# Altium footprint library PE42420D-Z.PcbLib: 3 footprints
Each footprint in its own frame and in the unit in brackets; x right, y up, seen from the top. Pads: shape width x height; smd on the part's side, far side on the other; paste and mask are expansions set on the pad; w line width, h text height; cw(c..) or ccw(c..) is an arc to the next point about the centre after c.
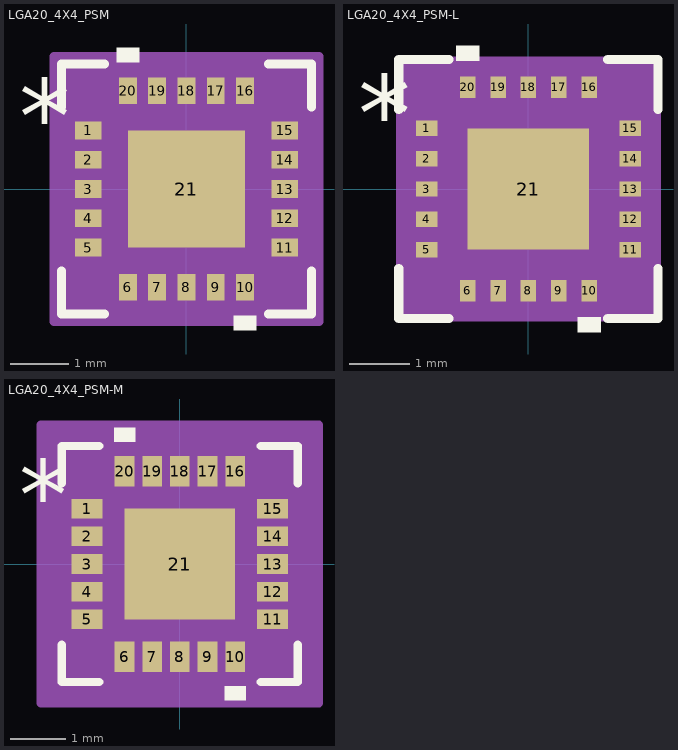
[diagram p0: the footprints below, top view; thin cyan lines are the x and y axes]

## LGA20_4X4_PSM [mil]
pads (21):
  rect 18x12 smd paste+0 mask+0: 1(-66,39.38) 2(-66,19.69) 3(-66,0) 4(-66,-19.69) 5(-66,-39.38) 11(66,-39.38) 12(66,-19.69) 13(66,0) 14(66,19.69) 15(66,39.38)
  rect 12x18 smd paste+0 mask+0: 6(-39.38,-66) 7(-19.69,-66) 8(0,-66) 9(19.69,-66) 10(39.38,-66) 16(39.38,66) 17(19.69,66) 18(0,66) 19(-19.69,66) 20(-39.38,66)
  rect 78.74x78.74 smd paste+0 mask+0: 21(0,0)
Top Overlay:
  region: 46.88,-85 31.88,-85 31.88,-95 46.88,-95
  region: -31.88,85 -46.88,85 -46.88,95 -31.88,95
  lines w6: -84,-54.9 -84,-84 -54.9,-84 ; -84,54.9 -84,84 -54.9,84 ; 54.9,-84 84,-84 84,-54.9 ; 54.9,84 84,84 84,54.9
  text "*" at -112.5,24.23 h50
Mechanical 13:
  lines w1: -79,29 -29,79 ; -79,-79 79,-79 ; -79,-79 -79,79 ; -79,-79 -79,-79 ; -79,79 79,79 ; -79,79 -79,79 ; 79,-79 79,-79 ; 79,-79 79,79 ; 79,79 79,79 ; -79,-45.38 -79,-33.38 -75,-33.38 -75,-45.38 -79,-45.38 ; -79,-25.69 -79,-13.69 -75,-13.69 -75,-25.69 -79,-25.69 ; -79,-6 -79,6 -75,6 -75,-6 -79,-6 ; -79,13.69 -79,25.69 -75,25.69 -75,13.69 -79,13.69 ; -79,33.38 -79,45.38 -75,45.38 -75,33.38 -79,33.38 ; -45.38,-79 -33.38,-79 -33.38,-75 -45.38,-75 -45.38,-79 ; -45.38,75 -33.38,75 -33.38,79 -45.38,79 -45.38,75 ; -25.69,-79 -13.69,-79 -13.69,-75 -25.69,-75 -25.69,-79 ; -25.69,75 -13.69,75 -13.69,79 -25.69,79 -25.69,75 ; -6,-79 6,-79 6,-75 -6,-75 -6,-79 ; -6,75 6,75 6,79 -6,79 -6,75 ; 13.69,-79 25.69,-79 25.69,-75 13.69,-75 13.69,-79 ; 13.69,75 25.69,75 25.69,79 13.69,79 13.69,75 ; 33.38,-79 45.38,-79 45.38,-75 33.38,-75 33.38,-79 ; 33.38,75 45.38,75 45.38,79 33.38,79 33.38,75 ; 75,-45.38 79,-45.38 79,-33.38 75,-33.38 75,-45.38 ; 75,-25.69 79,-25.69 79,-13.69 75,-13.69 75,-25.69 ; 75,-6 79,-6 79,6 75,6 75,-6 ; 75,13.69 79,13.69 79,25.69 75,25.69 75,13.69 ; 75,33.38 79,33.38 79,45.38 75,45.38 75,33.38
  text "*" at -69.5,24.23 h50
Mechanical 15:
  region: -55.38,-89 -89,-89 -89,-55.38 -89,55.38 -89,89 -55.38,89 55.38,89 89,89 89,55.38 89,-55.38 89,-89 55.38,-89
  lines w6: -89,-55.38 -89,-89 -55.38,-89 ; -89,-55.38 -89,-55.38 ; -89,-55.38 -89,55.38 ; -89,55.38 -89,55.38 ; -89,55.38 -89,89 -55.38,89 ; -55.38,-89 55.38,-89 ; -55.38,-89 -55.38,-89 ; -55.38,89 -55.38,89 ; -55.38,89 55.38,89 ; 55.38,-89 89,-89 89,-55.38 ; 55.38,-89 55.38,-89 ; 55.38,89 55.38,89 ; 55.38,89 89,89 89,55.38 ; 89,-55.38 89,55.38 ; 89,-55.38 89,-55.38 ; 89,55.38 89,55.38
3D body "LGA20_4X4_PSM.step": height 39.09, standoff 0, extent -79.02,-79.02 79.02,79.02

## LGA20_4X4_PSM-L [mil]
pads (21):
  rect 14x10 smd paste+0 mask+0: 1(-66,39.38) 2(-66,19.69) 3(-66,0) 4(-66,-19.69) 5(-66,-39.38) 11(66,-39.38) 12(66,-19.69) 13(66,0) 14(66,19.69) 15(66,39.38)
  rect 10x14 smd paste+0 mask+0: 6(-39.38,-66) 7(-19.69,-66) 8(0,-66) 9(19.69,-66) 10(39.38,-66) 16(39.38,66) 17(19.69,66) 18(0,66) 19(-19.69,66) 20(-39.38,66)
  rect 78.74x78.74 smd paste+0 mask+0: 21(0,0)
Top Overlay:
  region: 46.88,-83 31.88,-83 31.88,-93 46.88,-93
  region: -31.88,83 -46.88,83 -46.88,93 -31.88,93
  lines w6: -84,-51.49 -84,-84 -51.49,-84 ; -84,51.49 -84,84 -51.49,84 ; 51.49,-84 84,-84 84,-51.49 ; 51.49,84 84,84 84,51.49
  text "*" at -110.5,24.23 h50
Mechanical 13:
  lines w1: -79,29 -29,79 ; -79,-79 79,-79 ; -79,-79 -79,79 ; -79,-79 -79,-79 ; -79,79 79,79 ; -79,79 -79,79 ; 79,-79 79,-79 ; 79,-79 79,79 ; 79,79 79,79 ; -79,-45.38 -79,-33.38 -75,-33.38 -75,-45.38 -79,-45.38 ; -79,-25.69 -79,-13.69 -75,-13.69 -75,-25.69 -79,-25.69 ; -79,-6 -79,6 -75,6 -75,-6 -79,-6 ; -79,13.69 -79,25.69 -75,25.69 -75,13.69 -79,13.69 ; -79,33.38 -79,45.38 -75,45.38 -75,33.38 -79,33.38 ; -45.38,-79 -33.38,-79 -33.38,-75 -45.38,-75 -45.38,-79 ; -45.38,75 -33.38,75 -33.38,79 -45.38,79 -45.38,75 ; -25.69,-79 -13.69,-79 -13.69,-75 -25.69,-75 -25.69,-79 ; -25.69,75 -13.69,75 -13.69,79 -25.69,79 -25.69,75 ; -6,-79 6,-79 6,-75 -6,-75 -6,-79 ; -6,75 6,75 6,79 -6,79 -6,75 ; 13.69,-79 25.69,-79 25.69,-75 13.69,-75 13.69,-79 ; 13.69,75 25.69,75 25.69,79 13.69,79 13.69,75 ; 33.38,-79 45.38,-79 45.38,-75 33.38,-75 33.38,-79 ; 33.38,75 45.38,75 45.38,79 33.38,79 33.38,75 ; 75,-45.38 79,-45.38 79,-33.38 75,-33.38 75,-45.38 ; 75,-25.69 79,-25.69 79,-13.69 75,-13.69 75,-25.69 ; 75,-6 79,-6 79,6 75,6 75,-6 ; 75,13.69 79,13.69 79,25.69 75,25.69 75,13.69 ; 75,33.38 79,33.38 79,45.38 75,45.38 75,33.38
  text "*" at -71.5,24.23 h50
Mechanical 15:
  region: -48.38,-83 -83,-83 -83,-48.38 -83,48.38 -83,83 -48.38,83 48.38,83 83,83 83,48.38 83,-48.38 83,-83 48.38,-83
  lines w6: -83,-48.38 -83,-83 -48.38,-83 ; -83,-48.38 -83,-48.38 ; -83,-48.38 -83,48.38 ; -83,48.38 -83,48.38 ; -83,48.38 -83,83 -48.38,83 ; -48.38,-83 48.38,-83 ; -48.38,-83 -48.38,-83 ; -48.38,83 -48.38,83 ; -48.38,83 48.38,83 ; 48.38,-83 83,-83 83,-48.38 ; 48.38,-83 48.38,-83 ; 48.38,83 48.38,83 ; 48.38,83 83,83 83,48.38 ; 83,-48.38 83,48.38 ; 83,-48.38 83,-48.38 ; 83,48.38 83,48.38
3D body "LGA20_4X4_PSM.step": height 39.09, standoff 0, extent -79.02,-79.02 79.02,79.02

## LGA20_4X4_PSM-M [mil]
pads (21):
  rect 22x14 smd paste+0 mask+0: 1(-66,39.38) 2(-66,19.69) 3(-66,0) 4(-66,-19.69) 5(-66,-39.38) 11(66,-39.38) 12(66,-19.69) 13(66,0) 14(66,19.69) 15(66,39.38)
  rect 14x22 smd paste+0 mask+0: 6(-39.38,-66) 7(-19.69,-66) 8(0,-66) 9(19.69,-66) 10(39.38,-66) 16(39.38,66) 17(19.69,66) 18(0,66) 19(-19.69,66) 20(-39.38,66)
  rect 78.74x78.74 smd paste+0 mask+0: 21(0,0)
Top Overlay:
  region: 46.88,-87 31.88,-87 31.88,-97 46.88,-97
  region: -31.88,87 -46.88,87 -46.88,97 -31.88,97
  lines w6: -84,-57.45 -84,-84 -57.45,-84 ; -84,57.45 -84,84 -57.45,84 ; 57.45,-84 84,-84 84,-57.45 ; 57.45,84 84,84 84,57.45
  text "*" at -114.5,24.23 h50
Mechanical 13:
  lines w1: -79,29 -29,79 ; -79,-79 79,-79 ; -79,-79 -79,79 ; -79,-79 -79,-79 ; -79,79 79,79 ; -79,79 -79,79 ; 79,-79 79,-79 ; 79,-79 79,79 ; 79,79 79,79 ; -79,-45.38 -79,-33.38 -75,-33.38 -75,-45.38 -79,-45.38 ; -79,-25.69 -79,-13.69 -75,-13.69 -75,-25.69 -79,-25.69 ; -79,-6 -79,6 -75,6 -75,-6 -79,-6 ; -79,13.69 -79,25.69 -75,25.69 -75,13.69 -79,13.69 ; -79,33.38 -79,45.38 -75,45.38 -75,33.38 -79,33.38 ; -45.38,-79 -33.38,-79 -33.38,-75 -45.38,-75 -45.38,-79 ; -45.38,75 -33.38,75 -33.38,79 -45.38,79 -45.38,75 ; -25.69,-79 -13.69,-79 -13.69,-75 -25.69,-75 -25.69,-79 ; -25.69,75 -13.69,75 -13.69,79 -25.69,79 -25.69,75 ; -6,-79 6,-79 6,-75 -6,-75 -6,-79 ; -6,75 6,75 6,79 -6,79 -6,75 ; 13.69,-79 25.69,-79 25.69,-75 13.69,-75 13.69,-79 ; 13.69,75 25.69,75 25.69,79 13.69,79 13.69,75 ; 33.38,-79 45.38,-79 45.38,-75 33.38,-75 33.38,-79 ; 33.38,75 45.38,75 45.38,79 33.38,79 33.38,75 ; 75,-45.38 79,-45.38 79,-33.38 75,-33.38 75,-45.38 ; 75,-25.69 79,-25.69 79,-13.69 75,-13.69 75,-25.69 ; 75,-6 79,-6 79,6 75,6 75,-6 ; 75,13.69 79,13.69 79,25.69 75,25.69 75,13.69 ; 75,33.38 79,33.38 79,45.38 75,45.38 75,33.38
  text "*" at -67.5,24.23 h50
Mechanical 15:
  region: -66.38,-99 -99,-99 -99,-66.38 -99,66.38 -99,99 -66.38,99 66.38,99 99,99 99,66.38 99,-66.38 99,-99 66.38,-99
  lines w6: -99,-66.38 -99,-99 -66.38,-99 ; -99,-66.38 -99,-66.38 ; -99,-66.38 -99,66.38 ; -99,66.38 -99,66.38 ; -99,66.38 -99,99 -66.38,99 ; -66.38,-99 66.38,-99 ; -66.38,-99 -66.38,-99 ; -66.38,99 -66.38,99 ; -66.38,99 66.38,99 ; 66.38,-99 99,-99 99,-66.38 ; 66.38,-99 66.38,-99 ; 66.38,99 66.38,99 ; 66.38,99 99,99 99,66.38 ; 99,-66.38 99,66.38 ; 99,-66.38 99,-66.38 ; 99,66.38 99,66.38
3D body "LGA20_4X4_PSM.step": height 39.09, standoff 0, extent -79.02,-79.02 79.02,79.02